# EAGLE library part RASPBERRY_PI_4B_+_SAMTEC_ESP-1 (library RASPBERRY_PI_4B_+_Samtec_ESP-1)
RASPBERRY PI 4 MODEL B with Samtec ESP-120-33-G-D connector drawn from underneath for use as a plug in module. Source: Datasheet <https://www.raspberrypi.org/documentation/hardware/raspberrypi/mechanical/rpi_MECH_4b_4p0.pdf>
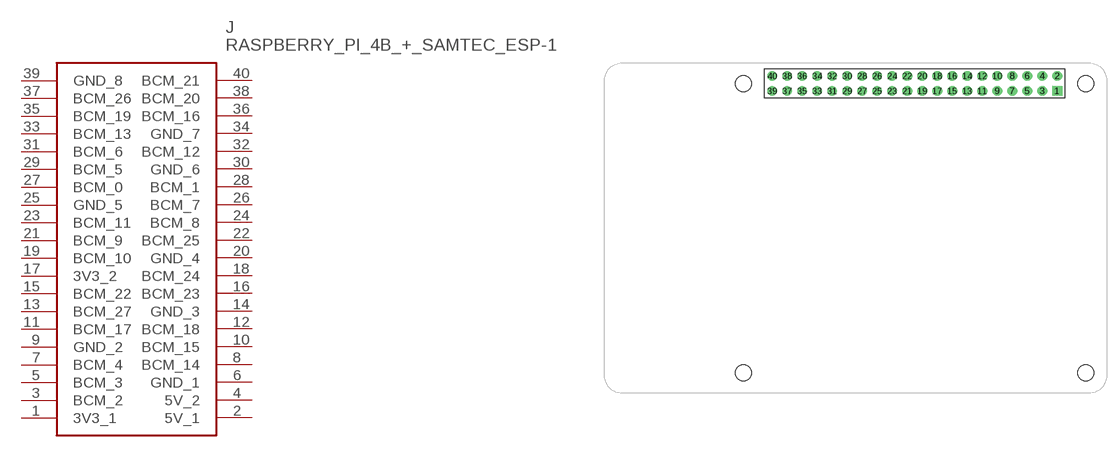
[diagram p0: symbol with the pads of RASPBERRYPI4B4GB; footprint RASPBERRYPI4B4GB]

Designator prefix J

## RASPBERRY_PI_4B_+_SAMTEC_ESP-1 (Description: RASPBERRY PI 4 MODEL B with Samtec ESP-120-33-G-D connector drawn from underneath for use as a plug in module.; Height: 24.3mm; Manufacturer_Name: RASPBERRY-PI; Manufacturer_Part_Number: RASPBERRY PI 4B + Samtec ESP-120-33-G-D)  [RASPBERRYPI4B4GB]
1  3V3_1  pwr
2  5V_1  pwr
3  BCM_2
4  5V_2  pwr
5  BCM_3
6  GND_1  pwr
7  BCM_4
8  BCM_14
9  GND_2  pwr
10  BCM_15
11  BCM_17
12  BCM_18
13  BCM_27
14  GND_3  pwr
15  BCM_22
16  BCM_23
17  3V3_2  pwr
18  BCM_24
19  BCM_10
20  GND_4  pwr
21  BCM_9
22  BCM_25
23  BCM_11
24  BCM_8
25  GND_5  pwr
26  BCM_7
27  BCM_0
28  BCM_1
29  BCM_5
30  GND_6  pwr
31  BCM_6
32  BCM_12
33  BCM_13
34  GND_7  pwr
35  BCM_19
36  BCM_16
37  BCM_26
38  BCM_20
39  GND_8  pwr
40  BCM_21

## Footprint RASPBERRYPI4B4GB (pad centres in mm)
RASPBERRY PI 4B/4GB
drill 1.11 pad 1.64 square: 1 0,0
drill 1.11 pad 1.64: 2 0,2.54; 3 -2.54,0; 4 -2.54,2.54; 5 -5.08,0; 6 -5.08,2.54; 7 -7.62,0; 8 -7.62,2.54; 9 -10.16,0; 10 -10.16,2.54; 11 -12.7,0; 12 -12.7,2.54; 13 -15.24,0; 14 -15.24,2.54; 15 -17.78,0; 16 -17.78,2.54; 17 -20.32,0; 18 -20.32,2.54; 19 -22.86,0; 20 -22.86,2.54; 21 -25.4,0; 22 -25.4,2.54; 23 -27.94,0; 24 -27.94,2.54; 25 -30.48,0; 26 -30.48,2.54; 27 -33.02,0; 28 -33.02,2.54; 29 -35.56,0; 30 -35.56,2.54; 31 -38.1,0; 32 -38.1,2.54; 33 -40.64,0; 34 -40.64,2.54; 35 -43.18,0; 36 -43.18,2.54; 37 -45.72,0; 38 -45.72,2.54; 39 -48.26,0; 40 -48.26,2.54
hole 2.7 at 4.87,1.27
hole 2.7 at -53.13,1.27
hole 2.7 at -53.13,-47.73
hole 2.7 at 4.87,-47.73